# Altium footprint library PTA20432015CPB103.PcbLib: 1 footprints
Each footprint in its own frame and in the unit in brackets; x right, y up, seen from the top. Pads: shape width x height; smd on the part's side, far side on the other; paste and mask are expansions set on the pad; w line width, h text height; cw(c..) or ccw(c..) is an arc to the next point about the centre after c.
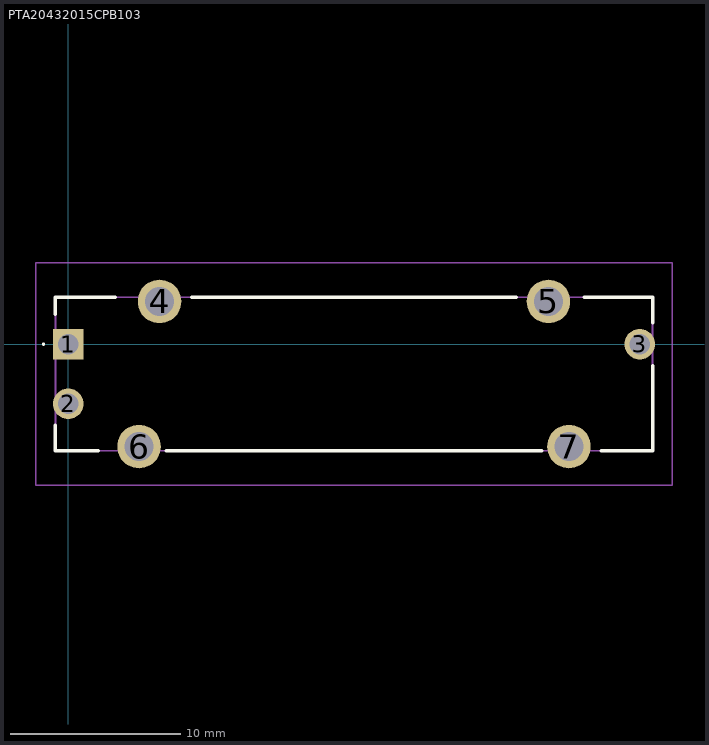
[diagram p0: the footprint, top view; thin cyan lines are the x and y axes]

## PTA20432015CPB103 [mm]
pads (7):
  rect 1.8x1.8 hole 1.2: 1(0,0)
  round 1.8 hole 1.2: 2(0,-3.5) 3(33.5,0)
  round 2.55 hole 1.7: 4(5.35,2.5) 5(28.15,2.5) 6(4.15,-6) 7(29.35,-6)
Top Overlay:
  lines w0.1: -1.5,0 -1.5,0 ; -1.5,0 ccw(c-1.45,0) -1.4,0 ; -1.5,0 cw(c-1.45,0) -1.4,0 ; -1.4,0 -1.4,0
  lines w0.2: -0.75,-4.75 -0.75,-6.25 1.75,-6.25 ; -0.75,1.75 -0.75,2.75 2.75,2.75 ; 5.75,-6.25 27.75,-6.25 ; 7.25,2.75 26.25,2.75 ; 30.25,2.75 34.25,2.75 34.25,1.25 ; 31.25,-6.25 34.25,-6.25 34.25,-1.25
Mechanical 15:
  lines w0.1: -0.75,-6.25 34.25,-6.25 34.25,2.75 -0.75,2.75 -0.75,-6.25
Mechanical 20:
  lines w0.1: -1.9,-8.275 35.4,-8.275 35.4,4.775 -1.9,4.775 -1.9,-8.275